# Altium footprint library CUI_TBP01R1-508-02BE.PcbLib: 1 footprints
Each footprint in its own frame and in the unit in brackets; x right, y up, seen from the top. Pads: shape width x height; smd on the part's side, far side on the other; paste and mask are expansions set on the pad; w line width, h text height; cw(c..) or ccw(c..) is an arc to the next point about the centre after c.
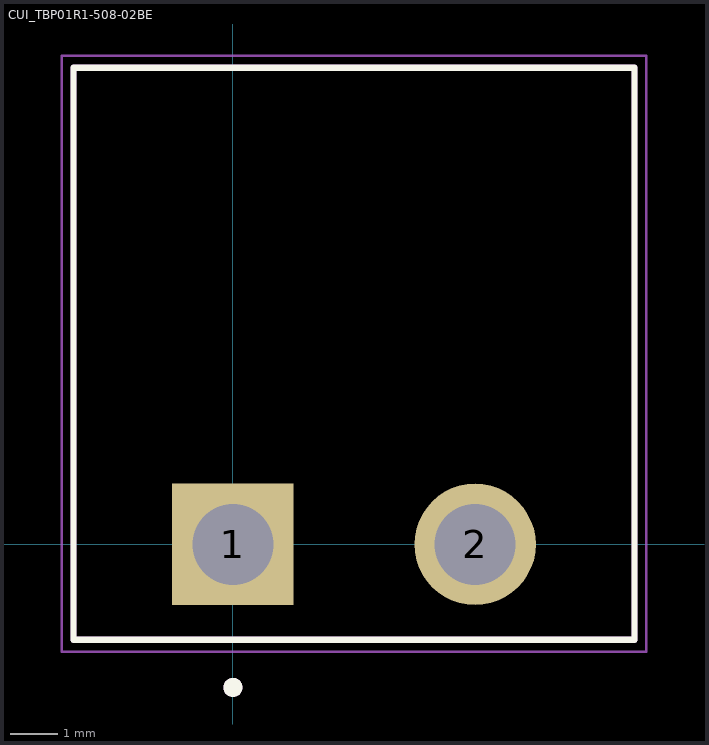
[diagram p0: the footprint, top view; thin cyan lines are the x and y axes]

## CUI_TBP01R1-508-02BE [mm]
pads (2):
  rect 2.55x2.55 / inner round 2.55 / far side rect 2.55x2.55 hole 1.7: 1(0,0)
  round 2.55 hole 1.7: 2(5.08,0)
Top Overlay:
  circle w0.2: c0,-3 r0.1
  lines w0.127: -3.34,-2 8.42,-2 8.42,10 -3.34,10 -3.34,-2
Assembly Top:
  circle w0.2: c0,-3 r0.1
  lines w0.127: -3.34,-2 8.42,-2 8.42,10 -3.34,10 -3.34,-2
Courtyard Top:
  lines w0.05: -3.59,-2.25 -3.59,10.25 8.67,10.25 8.67,-2.25 -3.59,-2.25
3D body "step_temp.STEP": height 8.5, standoff -4, extent -3.302,-2.063 8.458,9.937